# EAGLE library part TESO-LIV3F (library TrackerPeripherals)
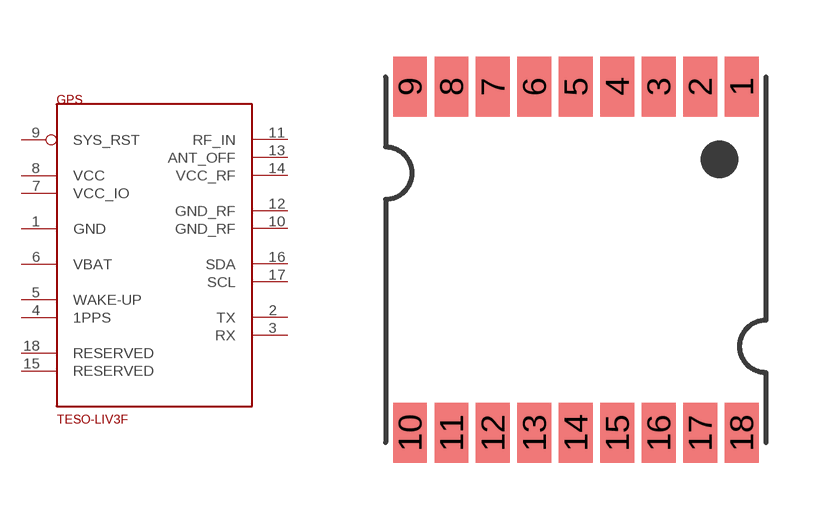
[diagram p0: symbol with the pads of TESEO-LIV3F; footprint TESEO-LIV3F]

Designator prefix GPS

## TESO-LIV3F  [TESEO-LIV3F]
1  GND  pas
2  TX  out
3  RX  in
4  1PPS  out
5  WAKE-UP  in
6  VBAT  pas
7  VCC_IO  pas
8  VCC  pas
9  SYS_RST  in
10  GND_RF  pas
11  RF_IN  in
12  GND_RF  pas
13  ANT_OFF  out
14  VCC_RF  out
15  RESERVED  nc
16  SDA
17  SCL
18  RESERVED  nc

## Footprint TESEO-LIV3F (pad centres in mm)
smd 0.9 x 1.6: 1 4.4,4.6; 2 3.3,4.6; 3 2.2,4.6; 4 1.1,4.6; 5 0,4.6; 6 -1.1,4.6; 7 -2.2,4.6; 8 -3.3,4.6; 9 -4.4,4.6; 10 -4.4,-4.6; 11 -3.3,-4.6; 12 -2.2,-4.6; 13 -1.1,-4.6; 14 0,-4.6; 15 1.1,-4.6; 16 2.2,-4.6; 17 3.3,-4.6; 18 4.4,-4.6